# EAGLE library part HEADER_14P (library Public)
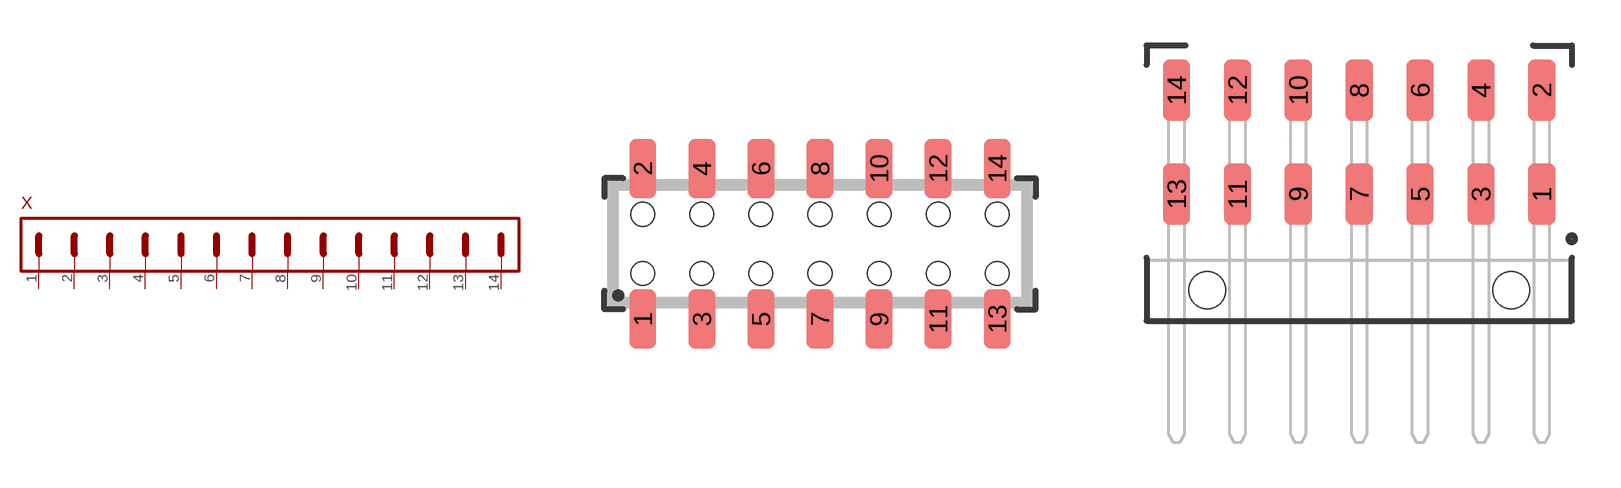
[diagram p221: symbol with the pads of HEADER_14P_2ROW_RM2.00MM_SMD_WUERTH_62131421821; footprints HEADER_14P_2ROW_RM2.00MM_SMD_WUERTH_62131421821, HEADER_14P_2ROW_RM2.0MM_SMD_HORIZONTAL_WUERTH_621314284521]

Designator prefix X

## HEADER_14P(WR-PHD_2.00MM_BOTTOM_ENTRY) (ID: 62131421821)  [HEADER_14P_2ROW_RM2.00MM_SMD_WUERTH_62131421821]
1  PIN1
2  PIN2
3  PIN3
4  PIN4
5  PIN5
6  PIN6
7  PIN7
8  PIN8
9  PIN9
10  PIN10
11  PIN11
12  PIN12
13  PIN13
14  PIN14

## HEADER_14P(RM2.00MM_2ROW_SMD_HORIZONTAL) (ID: 621314284521)  [HEADER_14P_2ROW_RM2.0MM_SMD_HORIZONTAL_WUERTH_621314284521]
Pads as for HEADER_14P_2ROW_RM2.00MM_SMD_WUERTH_62131421821

## HEADER_14P(MOLEX_MICROFIT_3.0_HORIZONTAL) (ID: 43045-1400)  [MOLEX_MICROFIT_3.0_43045-1400]
Pads as for HEADER_14P_2ROW_RM2.00MM_SMD_WUERTH_62131421821

## HEADER_14P(AMPSEAL_776262-X)  [AMPSEAL_776262-X]
Pads as for HEADER_14P_2ROW_RM2.00MM_SMD_WUERTH_62131421821

## HEADER_14P(MOLEX_MICROFIT_3.0_VERTICAL) (ID: 43045-1412)  [MOLEX_MICROFIT_3.0_43045-1412]
Pads as for HEADER_14P_2ROW_RM2.00MM_SMD_WUERTH_62131421821

## Footprint HEADER_14P_2ROW_RM2.00MM_SMD_WUERTH_62131421821 (pad centres in mm)
smd 0.9 x 2: 1 -6,-2.55; 2 -6,2.55; 3 -4,-2.55; 4 -4,2.55; 5 -2,-2.55; 6 -2,2.55; 7 0,-2.55; 8 0,2.55; 9 2,-2.55; 10 2,2.55; 11 4,-2.55; 12 4,2.55; 13 6,-2.55; 14 6,2.55
hole 0.8 at -2,1
hole 0.8 at -2,-1
hole 0.8 at 0,1
hole 0.8 at 0,-1
hole 0.8 at 2,1
hole 0.8 at 2,-1
hole 0.8 at 4,1
hole 0.8 at 4,-1
hole 0.8 at 6,1
hole 0.8 at 6,-1
hole 0.8 at -4,-1
hole 0.8 at -6,-1
hole 0.8 at -4,1
hole 0.8 at -6,1

## Footprint HEADER_14P_2ROW_RM2.0MM_SMD_HORIZONTAL_WUERTH_621314284521 (pad centres in mm)
smd 0.9 x 2.03: 1 6,-1.71; 2 6,1.71; 3 4,-1.71; 4 4,1.71; 5 2,-1.71; 6 2,1.71; 7 0,-1.71; 8 0,1.71; 9 -2,-1.71; 10 -2,1.71; 11 -4,-1.71; 12 -4,1.71; 13 -6,-1.71; 14 -6,1.71
hole 1.2 at 5,-4.87
hole 1.2 at -5,-4.87

## Footprint MOLEX_MICROFIT_3.0_43045-1400 (pad centres in mm)
drill 1.1: 1 9,-1.5; 2 6,-1.5; 3 3,-1.5; 4 0,-1.5; 5 -3,-1.5; 6 -6,-1.5; 7 -9,-1.5; 8 9,1.5; 9 6,1.5; 10 3,1.5; 11 0,1.5; 12 -3,1.5; 13 -6,1.5; 14 -9,1.5
hole 3 at -6.85,-5.82
hole 3 at 6.85,-5.82

## Footprint AMPSEAL_776262-X (pad centres in mm)
drill 1.75: 1 -8,4; 2 -4,4; 3 0,4; 4 4,4; 5 8,4; 6 -6,0; 7 -2,0; 8 2,0; 9 6,0; 10 -8,-4; 11 -4,-4; 12 0,-4; 13 4,-4; 14 8,-4
hole 2 at -17.7,10.8
hole 2 at 17.7,10.8
hole 2 at -19.2,-7.3
hole 2 at 19.2,-7.3

## Footprint MOLEX_MICROFIT_3.0_43045-1412 (pad centres in mm)
drill 1.1: 1 9,-1.5; 2 6,-1.5; 3 3,-1.5; 4 0,-1.5; 5 -3,-1.5; 6 -6,-1.5; 7 -9,-1.5; 8 9,1.5; 9 6,1.5; 10 3,1.5; 11 0,1.5; 12 -3,1.5; 13 -6,1.5; 14 -9,1.5
hole 1.1 at -12,2.44
hole 1.1 at 12,2.44